# Altium schematic symbol library VJ0603Y104KLXAC5G.SchLib: 1 symbol
Pins are listed as number, name and electrical type; pins without a type are passive.

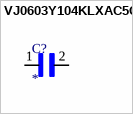
[diagram p0: symbol VJ0603Y104KLXAC5G]

## VJ0603Y104KLXAC5G
designator C?
Multilayer Ceramic Capacitors MLCC - SMD/SMT 100nF 25volts 10%; MP: VJ0603Y104KLXAC5G; MF: Vishay; Value: *; Purchase-URL: https://pricing.snapeda.com/search/part/VJ0603Y104KLXAC5G/?ref=eda; SnapEDA_Link: https://www.snapeda.com/parts/VJ0603Y104KLXAC5G/Vishay/view-part/2160592/?ref=snap; Price: None; Package: 0603 Vishay; Check_prices: https://www.snapeda.com/parts/VJ0603Y104KLXAC5G/Vishay/view-part/2160592/?ref=eda; Availability: Warning
footprint CAPC1608X92N
pins: 1, 2